# Altium integrated library Analog Devices RF IF Timing ICs and Clocks.IntLib: 168 symbols (part 15 of 18)
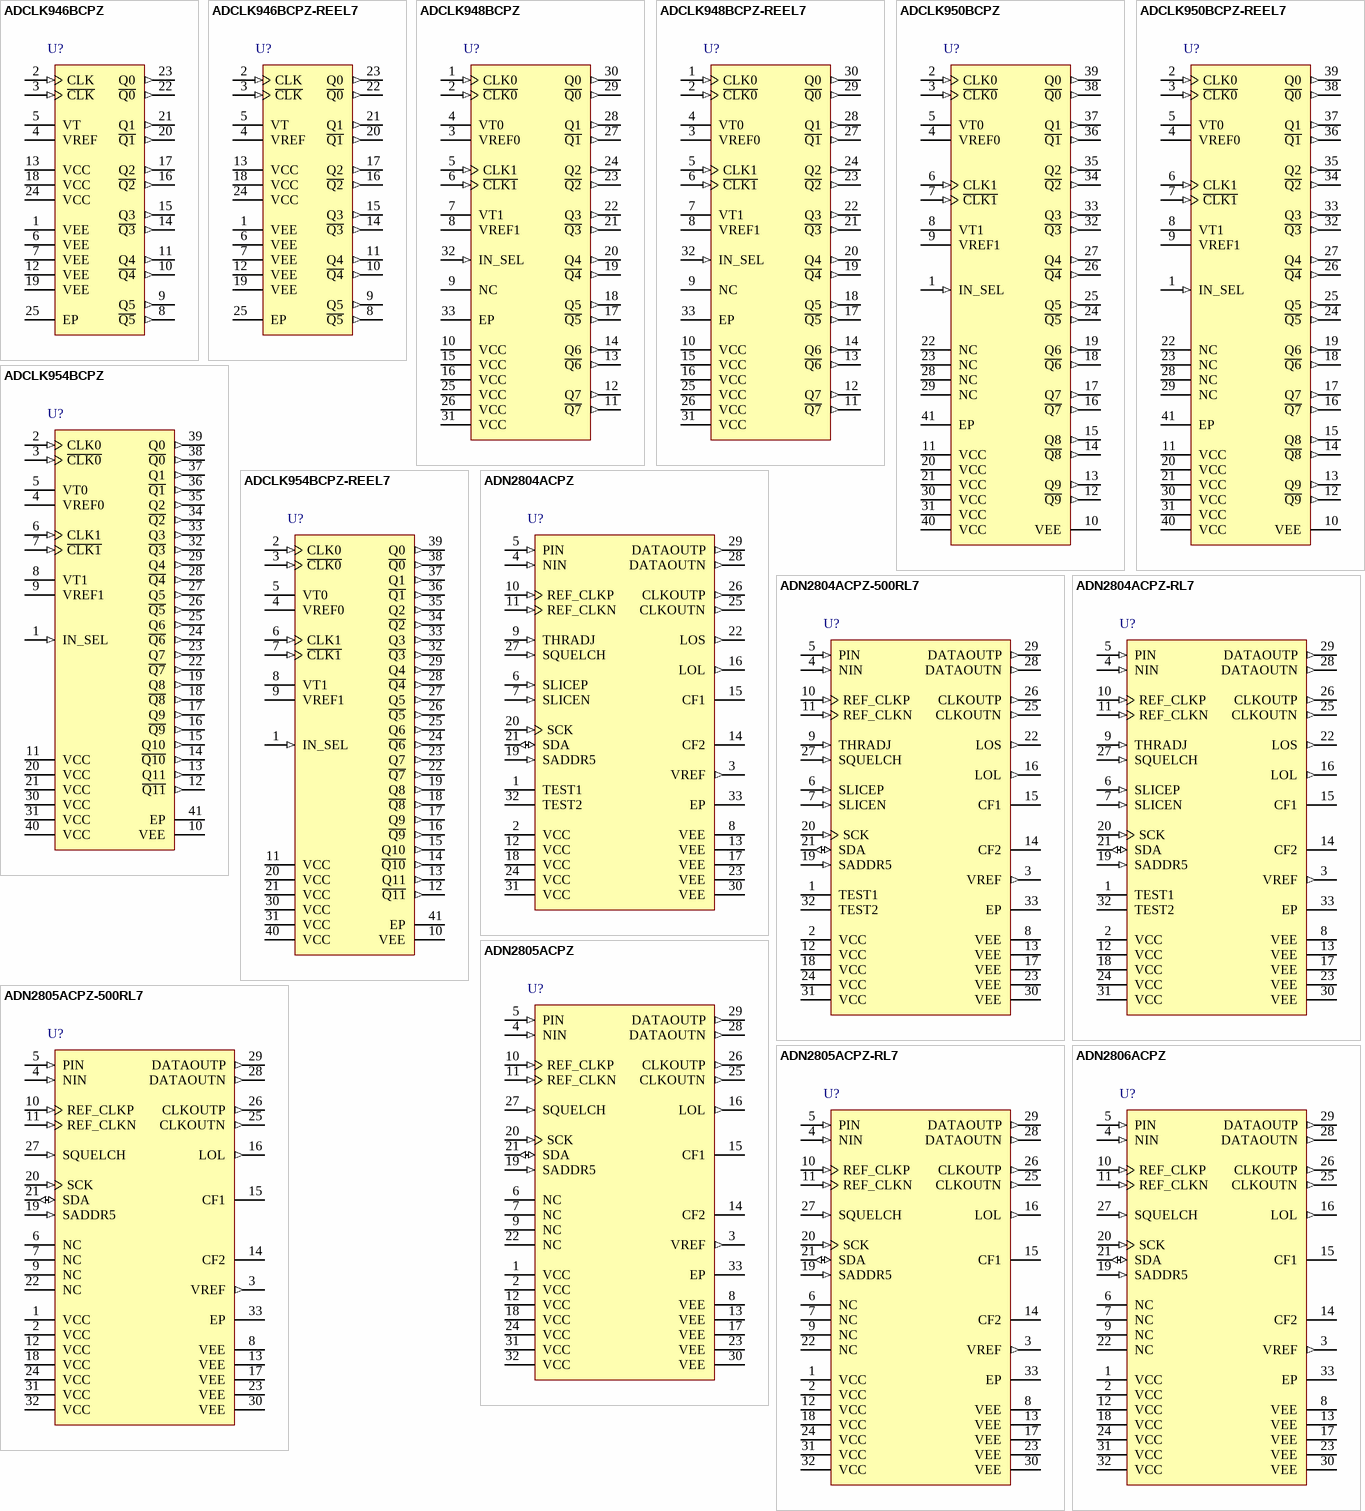
[diagram p29: symbols ADCLK946BCPZ to ADN2806ACPZ]

## ADCLK948BCPZ
designator U?
Two Selectable Inputs, 8 LVPECL Outputs, SiGe Clock Fanout Buffer, CP-32-8, Pb-Free, 490 Tray; +Supply Voltage (V): 3.3; Inputs: 2; Outputs: 8; Max f-out (MHz): 4800; Output Logic: ECL; LVPECL; DatasheetVersion: Rev. A; PackageVersion: 080306-A; PackageReference: CP-32-8; PackageDescription: 32-Lead Lead Frame Chip Scale Package [LFCSP_VQ]; Product Description: SiGe Clock Fanout Buffer; Code_JEDEC: MO-220-VHHD-2; ComponentLink1Description: Manufacturer URL; ComponentLink1URL: www.analog.com; ComponentLink2Description: Datasheet; ComponentLink2URL: http://www.analog.com/static/imported-files/data_sheets/ADCLK948.pdf; ComponentLink3Description: Package Specification; ComponentLink3URL: http://www.analog.com/static/imported-files/packages/3743763361381667927CP_32_8.pdf
footprint ADI-CP-32-8_N (QFN, 32-Leads, Body 5x5mm, Pitch 0.5mm, Thermal Pad 2.7x2.7mm, IPC Medium Density)
footprint ADI-CP-32-8_L (QFN, 32-Leads, Body 5x5mm, Pitch 0.5mm, Thermal Pad 2.7x2.7mm, IPC High Density)
footprint ADI-CP-32-8_M (QFN, 32-Leads, Body 5x5mm, Pitch 0.5mm, Thermal Pad 2.7x2.7mm, IPC Low Density)
pins: 1 CLK0 (in) "Differential Input (Positive) 0.", 2 ~{CLK0} (in) "Differential Input (Negative) 0.", 3 VREF0 (power) "Reference Voltage. Reference voltage for biasing ac-coupled CLK0 and C\L\K\0\ inputs.", 4 VT0 "Center Tap. Center tap of a 100  ohm input resistor for CLK0 and C\L\K\0\ inputs.", 5 CLK1 (in) "Differential Input (Positive) 1.", 6 ~{CLK1} (in) "Differential Input (Negative) 1.", 7 VT1 "Center Tap. Center tap of a 100  ohm input resistor for CLK1 and C\L\K\1\ inputs.", 8 VREF1 (power) "Reference Voltage. Reference voltage for biasing ac-coupled CLK1 and C\L\K\1\ inputs.", 9 NC "No Connection.", 10 VCC (power) "Positive Supply Pin.", 11 ~{Q7} (out) "Differential LVPECL Outputs.", 12 Q7 (out) "Differential LVPECL Outputs.", 13 ~{Q6} (out) "Differential LVPECL Outputs.", 14 Q6 (out) "Differential LVPECL Outputs.", 15 VCC (power) "Positive Supply Pin.", 16 VCC (power) "Positive Supply Pin.", 17 ~{Q5} (out) "Differential LVPECL Outputs.", 18 Q5 (out) "Differential LVPECL Outputs.", 19 ~{Q4} (out) "Differential LVPECL Outputs.", 20 Q4 (out) "Differential LVPECL Outputs.", 21 ~{Q3} (out) "Differential LVPECL Outputs.", 22 Q3 (out) "Differential LVPECL Outputs.", 23 ~{Q2} (out) "Differential LVPECL Outputs.", 24 Q2 (out) "Differential LVPECL Outputs.", 25 VCC (power) "Positive Supply Pin.", 26 VCC (power) "Positive Supply Pin.", 27 ~{Q1} (out) "Differential LVPECL Outputs.", 28 Q1 (out) "Differential LVPECL Outputs.", 29 ~{Q0} (out) "Differential LVPECL Outputs.", 30 Q0 (out) "Differential LVPECL Outputs.", 31 VCC (power) "Positive Supply Pin.", 32 IN_SEL (in) "Input Select. Logic 0 selects CLK0 and C\L\K\0\ inputs. Logic 1 selects CLK1 and C\L\K\1\ inputs.", 33 EP (power) "The exposed pad (EPAD) must be connected to VEE."

## ADCLK948BCPZ-REEL7
designator U?
Two Selectable Inputs, 8 LVPECL Outputs, SiGe Clock Fanout Buffer, CP-32-8, Pb-Free, 1500 Reel; +Supply Voltage (V): 3.3; Inputs: 2; Outputs: 8; Max f-out (MHz): 4800; Output Logic: ECL; LVPECL; DatasheetVersion: Rev. A; PackageVersion: 080306-A; PackageReference: CP-32-8; PackageDescription: 32-Lead Lead Frame Chip Scale Package [LFCSP_VQ]; Product Description: SiGe Clock Fanout Buffer; Code_JEDEC: MO-220-VHHD-2; ComponentLink1Description: Manufacturer URL; ComponentLink1URL: www.analog.com; ComponentLink2Description: Datasheet; ComponentLink2URL: http://www.analog.com/static/imported-files/data_sheets/ADCLK948.pdf; ComponentLink3Description: Package Specification; ComponentLink3URL: http://www.analog.com/static/imported-files/packages/3743763361381667927CP_32_8.pdf
footprint ADI-CP-32-8_N (QFN, 32-Leads, Body 5x5mm, Pitch 0.5mm, Thermal Pad 2.7x2.7mm, IPC Medium Density)
footprint ADI-CP-32-8_L (QFN, 32-Leads, Body 5x5mm, Pitch 0.5mm, Thermal Pad 2.7x2.7mm, IPC High Density)
footprint ADI-CP-32-8_M (QFN, 32-Leads, Body 5x5mm, Pitch 0.5mm, Thermal Pad 2.7x2.7mm, IPC Low Density)
pins: 1 CLK0 (in) "Differential Input (Positive) 0.", 2 ~{CLK0} (in) "Differential Input (Negative) 0.", 3 VREF0 (power) "Reference Voltage. Reference voltage for biasing ac-coupled CLK0 and C\L\K\0\ inputs.", 4 VT0 "Center Tap. Center tap of a 100  ohm input resistor for CLK0 and C\L\K\0\ inputs.", 5 CLK1 (in) "Differential Input (Positive) 1.", 6 ~{CLK1} (in) "Differential Input (Negative) 1.", 7 VT1 "Center Tap. Center tap of a 100  ohm input resistor for CLK1 and C\L\K\1\ inputs.", 8 VREF1 (power) "Reference Voltage. Reference voltage for biasing ac-coupled CLK1 and C\L\K\1\ inputs.", 9 NC "No Connection.", 10 VCC (power) "Positive Supply Pin.", 11 ~{Q7} (out) "Differential LVPECL Outputs.", 12 Q7 (out) "Differential LVPECL Outputs.", 13 ~{Q6} (out) "Differential LVPECL Outputs.", 14 Q6 (out) "Differential LVPECL Outputs.", 15 VCC (power) "Positive Supply Pin.", 16 VCC (power) "Positive Supply Pin.", 17 ~{Q5} (out) "Differential LVPECL Outputs.", 18 Q5 (out) "Differential LVPECL Outputs.", 19 ~{Q4} (out) "Differential LVPECL Outputs.", 20 Q4 (out) "Differential LVPECL Outputs.", 21 ~{Q3} (out) "Differential LVPECL Outputs.", 22 Q3 (out) "Differential LVPECL Outputs.", 23 ~{Q2} (out) "Differential LVPECL Outputs.", 24 Q2 (out) "Differential LVPECL Outputs.", 25 VCC (power) "Positive Supply Pin.", 26 VCC (power) "Positive Supply Pin.", 27 ~{Q1} (out) "Differential LVPECL Outputs.", 28 Q1 (out) "Differential LVPECL Outputs.", 29 ~{Q0} (out) "Differential LVPECL Outputs.", 30 Q0 (out) "Differential LVPECL Outputs.", 31 VCC (power) "Positive Supply Pin.", 32 IN_SEL (in) "Input Select. Logic 0 selects CLK0 and C\L\K\0\ inputs. Logic 1 selects CLK1 and C\L\K\1\ inputs.", 33 EP (power) "The exposed pad (EPAD) must be connected to VEE."

## ADCLK950BCPZ
designator U?
Two Selectable Inputs, 10 LVPECL Outputs, SiGe Clock Fanout Buffer, CP-40-8, Pb-Free, 490 Tray; +Supply Voltage (V): 3.3; Inputs: 2; Outputs: 10; Max f-out (MHz): 4800; Output Logic: ECL; LVPECL; DatasheetVersion: Rev. A; PackageVersion: 082708-A; PackageReference: CP-40-8; PackageDescription: 40-Lead Lead Frame Chip Scale Package [LFCSP_VQ]; Product Description: SiGe Clock Fanout Buffer; Code_JEDEC: MO-220-VJJD-2; ComponentLink1Description: Manufacturer URL; ComponentLink1URL: www.analog.com; ComponentLink2Description: Datasheet; ComponentLink2URL: http://www.analog.com/static/imported-files/data_sheets/ADCLK950.pdf; ComponentLink3Description: Package Specification; ComponentLink3URL: http://www.analog.com/static/imported-files/packages/PKG_PDF/LFCSP(CP)/CP_40_8.pdf
footprint ADI-CP-40-8_N (QFN, 40-Leads, Body 6x6mm, Pitch 0.5mm, Thermal Pad 2.9x2.9mm, IPC Medium Density)
footprint ADI-CP-40-8_L (QFN, 40-Leads, Body 6x6mm, Pitch 0.5mm, Thermal Pad 2.9x2.9mm, IPC High Density)
footprint ADI-CP-40-8_M (QFN, 40-Leads, Body 6x6mm, Pitch 0.5mm, Thermal Pad 2.9x2.9mm, IPC Low Density)
pins: 1 IN_SEL (in) "Input Select. Logic 0 selects CLK0 and C\L\K\0\ inputs. Logic 1 selects CLK1 and C\L\K\1\ inputs.", 2 CLK0 (in) "Differential Input (Positive) 0.", 3 ~{CLK0} (in) "Differential Input (Negative) 0.", 4 VREF0 (power) "Reference Voltage. Reference voltage for biasing ac-coupled CLK0 and C\L\K\0\ inputs.", 5 VT0 "Center Tap. Center tap of a 100  ohm input resistor for CLK0 and C\L\K\0\ inputs.", 6 CLK1 (in) "Differential Input (Positive) 1.", 7 ~{CLK1} (in) "Differential Input (Negative) 1.", 8 VT1 "Center Tap. Center tap of a 100  ohm input resistor for CLK1 and C\L\K\1\ inputs.", 9 VREF1 (power) "Reference Voltage. Reference voltage for biasing ac-coupled CLK1 and C\L\K\1\ inputs.", 10 VEE (power) "Negative Supply Pin.", 11 VCC (power) "Positive Supply Pin.", 12 ~{Q9} (out) "Differential LVPECL Outputs.", 13 Q9 (out) "Differential LVPECL Outputs.", 14 ~{Q8} (out) "Differential LVPECL Outputs.", 15 Q8 (out) "Differential LVPECL Outputs.", 16 ~{Q7} (out) "Differential LVPECL Outputs.", 17 Q7 (out) "Differential LVPECL Outputs.", 18 ~{Q6} (out) "Differential LVPECL Outputs.", 19 Q6 (out) "Differential LVPECL Outputs.", 20 VCC (power) "Positive Supply Pin.", 21 VCC (power) "Positive Supply Pin.", 22 NC "No Connection", 23 NC "No Connection", 24 ~{Q5} (out) "Differential LVPECL Outputs.", 25 Q5 (out) "Differential LVPECL Outputs.", 26 ~{Q4} (out) "Differential LVPECL Outputs.", 27 Q4 (out) "Differential LVPECL Outputs.", 28 NC "No Connection", 29 NC "No Connection", 30 VCC (power) "Positive Supply Pin.", 31 VCC (power) "Positive Supply Pin.", 32 ~{Q3} (out) "Differential LVPECL Outputs.", 33 Q3 (out) "Differential LVPECL Outputs.", 34 ~{Q2} (out) "Differential LVPECL Outputs.", 35 Q2 (out) "Differential LVPECL Outputs.", 36 ~{Q1} (out) "Differential LVPECL Outputs.", 37 Q1 (out) "Differential LVPECL Outputs.", 38 ~{Q0} (out) "Differential LVPECL Outputs.", 39 Q0 (out) "Differential LVPECL Outputs.", 40 VCC (power) "Positive Supply Pin.", 41 EP (power) "Exposed pad (EPAD) must be connected to VEE."

## ADCLK950BCPZ-REEL7
designator U?
Two Selectable Inputs, 10 LVPECL Outputs, SiGe Clock Fanout Buffer, CP-40-8, Pb-Free, 750 Reel; +Supply Voltage (V): 3.3; Inputs: 2; Outputs: 10; Max f-out (MHz): 4800; Output Logic: ECL; LVPECL; DatasheetVersion: Rev. A; PackageVersion: 082708-A; PackageReference: CP-40-8; PackageDescription: 40-Lead Lead Frame Chip Scale Package [LFCSP_VQ]; Product Description: SiGe Clock Fanout Buffer; Code_JEDEC: MO-220-VJJD-2; ComponentLink1Description: Manufacturer URL; ComponentLink1URL: www.analog.com; ComponentLink2Description: Datasheet; ComponentLink2URL: http://www.analog.com/static/imported-files/data_sheets/ADCLK950.pdf; ComponentLink3Description: Package Specification; ComponentLink3URL: http://www.analog.com/static/imported-files/packages/PKG_PDF/LFCSP(CP)/CP_40_8.pdf
footprint ADI-CP-40-8_N (QFN, 40-Leads, Body 6x6mm, Pitch 0.5mm, Thermal Pad 2.9x2.9mm, IPC Medium Density)
footprint ADI-CP-40-8_L (QFN, 40-Leads, Body 6x6mm, Pitch 0.5mm, Thermal Pad 2.9x2.9mm, IPC High Density)
footprint ADI-CP-40-8_M (QFN, 40-Leads, Body 6x6mm, Pitch 0.5mm, Thermal Pad 2.9x2.9mm, IPC Low Density)
pins: 1 IN_SEL (in) "Input Select. Logic 0 selects CLK0 and C\L\K\0\ inputs. Logic 1 selects CLK1 and C\L\K\1\ inputs.", 2 CLK0 (in) "Differential Input (Positive) 0.", 3 ~{CLK0} (in) "Differential Input (Negative) 0.", 4 VREF0 (power) "Reference Voltage. Reference voltage for biasing ac-coupled CLK0 and C\L\K\0\ inputs.", 5 VT0 "Center Tap. Center tap of a 100  ohm input resistor for CLK0 and C\L\K\0\ inputs.", 6 CLK1 (in) "Differential Input (Positive) 1.", 7 ~{CLK1} (in) "Differential Input (Negative) 1.", 8 VT1 "Center Tap. Center tap of a 100  ohm input resistor for CLK1 and C\L\K\1\ inputs.", 9 VREF1 (power) "Reference Voltage. Reference voltage for biasing ac-coupled CLK1 and C\L\K\1\ inputs.", 10 VEE (power) "Negative Supply Pin.", 11 VCC (power) "Positive Supply Pin.", 12 ~{Q9} (out) "Differential LVPECL Outputs.", 13 Q9 (out) "Differential LVPECL Outputs.", 14 ~{Q8} (out) "Differential LVPECL Outputs.", 15 Q8 (out) "Differential LVPECL Outputs.", 16 ~{Q7} (out) "Differential LVPECL Outputs.", 17 Q7 (out) "Differential LVPECL Outputs.", 18 ~{Q6} (out) "Differential LVPECL Outputs.", 19 Q6 (out) "Differential LVPECL Outputs.", 20 VCC (power) "Positive Supply Pin.", 21 VCC (power) "Positive Supply Pin.", 22 NC "No Connection", 23 NC "No Connection", 24 ~{Q5} (out) "Differential LVPECL Outputs.", 25 Q5 (out) "Differential LVPECL Outputs.", 26 ~{Q4} (out) "Differential LVPECL Outputs.", 27 Q4 (out) "Differential LVPECL Outputs.", 28 NC "No Connection", 29 NC "No Connection", 30 VCC (power) "Positive Supply Pin.", 31 VCC (power) "Positive Supply Pin.", 32 ~{Q3} (out) "Differential LVPECL Outputs.", 33 Q3 (out) "Differential LVPECL Outputs.", 34 ~{Q2} (out) "Differential LVPECL Outputs.", 35 Q2 (out) "Differential LVPECL Outputs.", 36 ~{Q1} (out) "Differential LVPECL Outputs.", 37 Q1 (out) "Differential LVPECL Outputs.", 38 ~{Q0} (out) "Differential LVPECL Outputs.", 39 Q0 (out) "Differential LVPECL Outputs.", 40 VCC (power) "Positive Supply Pin.", 41 EP (power) "Exposed pad (EPAD) must be connected to VEE."

## ADCLK954BCPZ
designator U?
Two Selectable Inputs, 12 LVPECL Outputs, SiGe Clock Fanout Buffer, CP-40-8, Pb-Free, 490 Tray; +Supply Voltage (V): 3.3; Inputs: 2; Outputs: 12; On-Chip VCO or DCO: No; Max f-out (MHz): 4800; DatasheetVersion: Rev. B; PackageVersion: 082708-A; PackageReference: CP-40-8; PackageDescription: 40-Lead Lead Frame Chip Scale Package [LFCSP_VQ]; Product Description: SiGe Clock Fanout Buffer; Output Logic: LVPECL; Code_JEDEC: MO-220-VJJD-2; ComponentLink1Description: Manufacturer URL; ComponentLink1URL: www.analog.com; ComponentLink2Description: Datasheet; ComponentLink2URL: http://www.analog.com/static/imported-files/data_sheets/ADCLK954.pdf; ComponentLink3Description: Package Specification; ComponentLink3URL: http://www.analog.com/static/imported-files/packages/PKG_PDF/LFCSP(CP)/CP_40_8.pdf
footprint ADI-CP-40-8_N (QFN, 40-Leads, Body 6x6mm, Pitch 0.5mm, Thermal Pad 2.9x2.9mm, IPC Medium Density)
footprint ADI-CP-40-8_L (QFN, 40-Leads, Body 6x6mm, Pitch 0.5mm, Thermal Pad 2.9x2.9mm, IPC High Density)
footprint ADI-CP-40-8_M (QFN, 40-Leads, Body 6x6mm, Pitch 0.5mm, Thermal Pad 2.9x2.9mm, IPC Low Density)
pins: 1 IN_SEL (in) "Input Select. Logic 0 selects CLK0 and C\L\K\0\ inputs. Logic 1 selects CLK1 and C\L\K\1\ inputs.", 2 CLK0 (in) "Differential Input (Positive) 0", 3 ~{CLK0} (in) "Differential Input (Negative) 0", 4 VREF0 (power) "Reference Voltage. Reference voltage for biasing ac-coupled CLK0 and C\L\K\0\ inputs", 5 VT0 "Center Tap. Center tap of a 100  ohm input resistor for CLK0 and CLK0 inputs.", 6 CLK1 (in) "Differential Input (Positive) 1", 7 ~{CLK1} (in) "Differential Input (Negative) 1", 8 VT1 "Center Tap. Center tap of a 100  ohm input resistor for CLK1 and C\L\K\1\ inputs", 9 VREF1 (power) "Reference Voltage. Reference voltage for biasing ac-coupled CLK1 and C\L\K\1\ inputs", 10 VEE (power) "Negative Supply Pin", 11 VCC (power) "Positive Supply Pin", 12 ~{Q11} (out) "Differential LVPECL Outputs", 13 Q11 (out) "Differential LVPECL Outputs", 14 ~{Q10} (out) "Differential LVPECL Outputs", 15 Q10 (out) "Differential LVPECL Outputs", 16 ~{Q9} (out) "Differential LVPECL Outputs", 17 Q9 (out) "Differential LVPECL Outputs", 18 ~{Q8} (out) "Differential LVPECL Outputs", 19 Q8 (out) "Differential LVPECL Outputs", 20 VCC (power) "Positive Supply Pin", 21 VCC (power) "Positive Supply Pin", 22 ~{Q7} (out) "Differential LVPECL Outputs", 23 Q7 (out) "Differential LVPECL Outputs", 24 ~{Q6} (out) "Differential LVPECL Outputs", 25 Q6 (out) "Differential LVPECL Outputs", 26 ~{Q5} (out) "Differential LVPECL Outputs", 27 Q5 (out) "Differential LVPECL Outputs", 28 ~{Q4} (out) "Differential LVPECL Outputs", 29 Q4 (out) "Differential LVPECL Outputs", 30 VCC (power) "Positive Supply Pin", 31 VCC (power) "Positive Supply Pin", 32 ~{Q3} (out) "Differential LVPECL Outputs", 33 Q3 (out) "Differential LVPECL Outputs", 34 ~{Q2} (out) "Differential LVPECL Outputs", 35 Q2 (out) "Differential LVPECL Outputs", 36 ~{Q1} (out) "Differential LVPECL Outputs", 37 Q1 (out) "Differential LVPECL Outputs", 38 ~{Q0} (out) "Differential LVPECL Outputs", 39 Q0 (out) "Differential LVPECL Outputs", 40 VCC (power) "Positive Supply Pin", 41 EP (power) "Exposed pad (EPAD) must be connected to VEE"

## ADCLK954BCPZ-REEL7
designator U?
Two Selectable Inputs, 12 LVPECL Outputs, SiGe Clock Fanout Buffer, CP-40-8, Pb-Free, 750 Reel; +Supply Voltage (V): 3.3; Inputs: 2; Outputs: 12; On-Chip VCO or DCO: No; Max f-out (MHz): 4800; DatasheetVersion: Rev. B; PackageVersion: 082708-A; PackageReference: CP-40-8; PackageDescription: 40-Lead Lead Frame Chip Scale Package [LFCSP_VQ]; Product Description: SiGe Clock Fanout Buffer; Output Logic: LVPECL; Code_JEDEC: MO-220-VJJD-2; ComponentLink1Description: Manufacturer URL; ComponentLink1URL: www.analog.com; ComponentLink2Description: Datasheet; ComponentLink2URL: http://www.analog.com/static/imported-files/data_sheets/ADCLK954.pdf; ComponentLink3Description: Package Specification; ComponentLink3URL: http://www.analog.com/static/imported-files/packages/PKG_PDF/LFCSP(CP)/CP_40_8.pdf
footprint ADI-CP-40-8_N (QFN, 40-Leads, Body 6x6mm, Pitch 0.5mm, Thermal Pad 2.9x2.9mm, IPC Medium Density)
footprint ADI-CP-40-8_L (QFN, 40-Leads, Body 6x6mm, Pitch 0.5mm, Thermal Pad 2.9x2.9mm, IPC High Density)
footprint ADI-CP-40-8_M (QFN, 40-Leads, Body 6x6mm, Pitch 0.5mm, Thermal Pad 2.9x2.9mm, IPC Low Density)
pins: 1 IN_SEL (in) "Input Select. Logic 0 selects CLK0 and C\L\K\0\ inputs. Logic 1 selects CLK1 and C\L\K\1\ inputs.", 2 CLK0 (in) "Differential Input (Positive) 0", 3 ~{CLK0} (in) "Differential Input (Negative) 0", 4 VREF0 (power) "Reference Voltage. Reference voltage for biasing ac-coupled CLK0 and C\L\K\0\ inputs", 5 VT0 "Center Tap. Center tap of a 100  ohm input resistor for CLK0 and CLK0 inputs.", 6 CLK1 (in) "Differential Input (Positive) 1", 7 ~{CLK1} (in) "Differential Input (Negative) 1", 8 VT1 "Center Tap. Center tap of a 100  ohm input resistor for CLK1 and C\L\K\1\ inputs", 9 VREF1 (power) "Reference Voltage. Reference voltage for biasing ac-coupled CLK1 and C\L\K\1\ inputs", 10 VEE (power) "Negative Supply Pin", 11 VCC (power) "Positive Supply Pin", 12 ~{Q11} (out) "Differential LVPECL Outputs", 13 Q11 (out) "Differential LVPECL Outputs", 14 ~{Q10} (out) "Differential LVPECL Outputs", 15 Q10 (out) "Differential LVPECL Outputs", 16 ~{Q9} (out) "Differential LVPECL Outputs", 17 Q9 (out) "Differential LVPECL Outputs", 18 ~{Q8} (out) "Differential LVPECL Outputs", 19 Q8 (out) "Differential LVPECL Outputs", 20 VCC (power) "Positive Supply Pin", 21 VCC (power) "Positive Supply Pin", 22 ~{Q7} (out) "Differential LVPECL Outputs", 23 Q7 (out) "Differential LVPECL Outputs", 24 ~{Q6} (out) "Differential LVPECL Outputs", 25 Q6 (out) "Differential LVPECL Outputs", 26 ~{Q5} (out) "Differential LVPECL Outputs", 27 Q5 (out) "Differential LVPECL Outputs", 28 ~{Q4} (out) "Differential LVPECL Outputs", 29 Q4 (out) "Differential LVPECL Outputs", 30 VCC (power) "Positive Supply Pin", 31 VCC (power) "Positive Supply Pin", 32 ~{Q3} (out) "Differential LVPECL Outputs", 33 Q3 (out) "Differential LVPECL Outputs", 34 ~{Q2} (out) "Differential LVPECL Outputs", 35 Q2 (out) "Differential LVPECL Outputs", 36 ~{Q1} (out) "Differential LVPECL Outputs", 37 Q1 (out) "Differential LVPECL Outputs", 38 ~{Q0} (out) "Differential LVPECL Outputs", 39 Q0 (out) "Differential LVPECL Outputs", 40 VCC (power) "Positive Supply Pin", 41 EP (power) "Exposed pad (EPAD) must be connected to VEE"

## ADN2804ACPZ
designator U?
622 Mbps Clock and Data Recovery IC with Integrated Limiting Amplifier, CP-32-2, Pb-Free, 490 Tray; Voltage Supply (V): 3.3; Data Rate (Gb/s): 0.622; Input Sensitivity (mVp-p): 3; Jitter Tolerance (Ulpp): 1.0 @ 250 kHz; Jitter Transfer: 71 kHz @ OC12; Jitter Gen (mUI rms): 1; Rate: Single; Reference Clk: Optional; DatasheetVersion: Rev. C; PackageVersion: Jan-2005; PackageReference: CP-32-2; PackageDescription: 32-Lead Lead Frame Chip Scale Package [LFCSP_VQ]; Code_JEDEC: MO-220-VHHD-2; ComponentLink1Description: Manufacturer URL; ComponentLink1URL: www.analog.com; ComponentLink2Description: Datasheet; ComponentLink2URL: http://www.analog.com/static/imported-files/data_sheets/ADN2804.pdf; ComponentLink3Description: Package Specification; ComponentLink3URL: http://www.analog.com/static/imported-files/packages/414143737956480539664569CP_32_2.pdf
footprint ADI-CP-32-2_N (QFN, 32-Leads, Body 5x5mm, Pitch 0.5mm, Thermal Pad 3.1x3.1mm, IPC Medium Density)
footprint ADI-CP-32-2_L (QFN, 32-Leads, Body 5x5mm, Pitch 0.5mm, Thermal Pad 3.1x3.1mm, IPC High Density)
footprint ADI-CP-32-2_M (QFN, 32-Leads, Body 5x5mm, Pitch 0.5mm, Thermal Pad 3.1x3.1mm, IPC Low Density)
pins: 1 TEST1 (power) "Connect to VCC", 2 VCC (power) "Power for Limiting Amplifier, LOS", 3 VREF (out) "Internal VREF Voltage. Decouple to GND with a 0.1 uF capacitor", 4 NIN (in) "Differential Data Input. CML", 5 PIN (in) "Differential Data Input. CML", 6 SLICEP (in) "Differential Slice Level Adjust Input", 7 SLICEN (in) "Differential Slice Level Adjust Input", 8 VEE (power) "GND for Limiting Amplifier, LOS", 9 THRADJ (in) "LOS Threshold Setting Resistor", 10 REF_CLKP (in) "Differential REFCLK Input. 10 MHz to 160 MHz", 11 REF_CLKN (in) "Differential REFCLK Input. 10 MHz to 160 MHz", 12 VCC (power) "VCO Power", 13 VEE (power) "VCO GND", 14 CF2 "Frequency Loop Capacitor", 15 CF1 "Frequency Loop Capacitor", 16 LOL (out) "Loss-of-Lock Indicator. LVTTL active high", 17 VEE (power) "FLL Detector GND", 18 VCC (power) "FLL Detector Power", 19 SADDR5 (in) "Slave Address Bit 5", 20 SCK (in) "I2C Clock Input", 21 SDA (io) "I2C Data Input", 22 LOS (out) "Loss-of-Signal Detect Output. Active high. LVTTL", 23 VEE (power) "Output Buffer, I2C GND", 24 VCC (power) "Output Buffer, I2C Power", 25 CLKOUTN (out) "Differential Recovered Clock Output. LVDS", 26 CLKOUTP (out) "Differential Recovered Clock Output. LVDS", 27 SQUELCH (in) "Disable Clock and Data Outputs. Active high. LVTTL", 28 DATAOUTN (out) "Differential Recovered Data Output. LVDS", 29 DATAOUTP (out) "Differential Recovered Data Output. LVDS", 30 VEE (power) "Phase Detector, Phase Shifter GND", 31 VCC (power) "Phase Detector, Phase Shifter Power", 32 TEST2 (power) "Connect to VCC", 33 EP (power) "Connect to GND"

## ADN2804ACPZ-500RL7
designator U?
622 Mbps Clock and Data Recovery IC with Integrated Limiting Amplifier, CP-32-2, Pb-Free, 500 Reel; Voltage Supply (V): 3.3; Data Rate (Gb/s): 0.622; Input Sensitivity (mVp-p): 3; Jitter Tolerance (Ulpp): 1.0 @ 250 kHz; Jitter Transfer: 71 kHz @ OC12; Jitter Gen (mUI rms): 1; Rate: Single; Reference Clk: Optional; DatasheetVersion: Rev. C; PackageVersion: Jan-2005; PackageReference: CP-32-2; PackageDescription: 32-Lead Lead Frame Chip Scale Package [LFCSP_VQ]; Code_JEDEC: MO-220-VHHD-2; ComponentLink1Description: Manufacturer URL; ComponentLink1URL: www.analog.com; ComponentLink2Description: Datasheet; ComponentLink2URL: http://www.analog.com/static/imported-files/data_sheets/ADN2804.pdf; ComponentLink3Description: Package Specification; ComponentLink3URL: http://www.analog.com/static/imported-files/packages/414143737956480539664569CP_32_2.pdf
footprint ADI-CP-32-2_N (QFN, 32-Leads, Body 5x5mm, Pitch 0.5mm, Thermal Pad 3.1x3.1mm, IPC Medium Density)
footprint ADI-CP-32-2_L (QFN, 32-Leads, Body 5x5mm, Pitch 0.5mm, Thermal Pad 3.1x3.1mm, IPC High Density)
footprint ADI-CP-32-2_M (QFN, 32-Leads, Body 5x5mm, Pitch 0.5mm, Thermal Pad 3.1x3.1mm, IPC Low Density)
pins: 1 TEST1 (power) "Connect to VCC", 2 VCC (power) "Power for Limiting Amplifier, LOS", 3 VREF (out) "Internal VREF Voltage. Decouple to GND with a 0.1 uF capacitor", 4 NIN (in) "Differential Data Input. CML", 5 PIN (in) "Differential Data Input. CML", 6 SLICEP (in) "Differential Slice Level Adjust Input", 7 SLICEN (in) "Differential Slice Level Adjust Input", 8 VEE (power) "GND for Limiting Amplifier, LOS", 9 THRADJ (in) "LOS Threshold Setting Resistor", 10 REF_CLKP (in) "Differential REFCLK Input. 10 MHz to 160 MHz", 11 REF_CLKN (in) "Differential REFCLK Input. 10 MHz to 160 MHz", 12 VCC (power) "VCO Power", 13 VEE (power) "VCO GND", 14 CF2 "Frequency Loop Capacitor", 15 CF1 "Frequency Loop Capacitor", 16 LOL (out) "Loss-of-Lock Indicator. LVTTL active high", 17 VEE (power) "FLL Detector GND", 18 VCC (power) "FLL Detector Power", 19 SADDR5 (in) "Slave Address Bit 5", 20 SCK (in) "I2C Clock Input", 21 SDA (io) "I2C Data Input", 22 LOS (out) "Loss-of-Signal Detect Output. Active high. LVTTL", 23 VEE (power) "Output Buffer, I2C GND", 24 VCC (power) "Output Buffer, I2C Power", 25 CLKOUTN (out) "Differential Recovered Clock Output. LVDS", 26 CLKOUTP (out) "Differential Recovered Clock Output. LVDS", 27 SQUELCH (in) "Disable Clock and Data Outputs. Active high. LVTTL", 28 DATAOUTN (out) "Differential Recovered Data Output. LVDS", 29 DATAOUTP (out) "Differential Recovered Data Output. LVDS", 30 VEE (power) "Phase Detector, Phase Shifter GND", 31 VCC (power) "Phase Detector, Phase Shifter Power", 32 TEST2 (power) "Connect to VCC", 33 EP (power) "Connect to GND"

## ADN2804ACPZ-RL7
designator U?
622 Mbps Clock and Data Recovery IC with Integrated Limiting Amplifier, CP-32-2, Pb-Free, 1500 Reel; Voltage Supply (V): 3.3; Data Rate (Gb/s): 0.622; Input Sensitivity (mVp-p): 3; Jitter Tolerance (Ulpp): 1.0 @ 250 kHz; Jitter Transfer: 71 kHz @ OC12; Jitter Gen (mUI rms): 1; Rate: Single; Reference Clk: Optional; DatasheetVersion: Rev. C; PackageVersion: Jan-2005; PackageReference: CP-32-2; PackageDescription: 32-Lead Lead Frame Chip Scale Package [LFCSP_VQ]; Code_JEDEC: MO-220-VHHD-2; ComponentLink1Description: Manufacturer URL; ComponentLink1URL: www.analog.com; ComponentLink2Description: Datasheet; ComponentLink2URL: http://www.analog.com/static/imported-files/data_sheets/ADN2804.pdf; ComponentLink3Description: Package Specification; ComponentLink3URL: http://www.analog.com/static/imported-files/packages/414143737956480539664569CP_32_2.pdf
footprint ADI-CP-32-2_N (QFN, 32-Leads, Body 5x5mm, Pitch 0.5mm, Thermal Pad 3.1x3.1mm, IPC Medium Density)
footprint ADI-CP-32-2_L (QFN, 32-Leads, Body 5x5mm, Pitch 0.5mm, Thermal Pad 3.1x3.1mm, IPC High Density)
footprint ADI-CP-32-2_M (QFN, 32-Leads, Body 5x5mm, Pitch 0.5mm, Thermal Pad 3.1x3.1mm, IPC Low Density)
pins: 1 TEST1 (power) "Connect to VCC", 2 VCC (power) "Power for Limiting Amplifier, LOS", 3 VREF (out) "Internal VREF Voltage. Decouple to GND with a 0.1 uF capacitor", 4 NIN (in) "Differential Data Input. CML", 5 PIN (in) "Differential Data Input. CML", 6 SLICEP (in) "Differential Slice Level Adjust Input", 7 SLICEN (in) "Differential Slice Level Adjust Input", 8 VEE (power) "GND for Limiting Amplifier, LOS", 9 THRADJ (in) "LOS Threshold Setting Resistor", 10 REF_CLKP (in) "Differential REFCLK Input. 10 MHz to 160 MHz", 11 REF_CLKN (in) "Differential REFCLK Input. 10 MHz to 160 MHz", 12 VCC (power) "VCO Power", 13 VEE (power) "VCO GND", 14 CF2 "Frequency Loop Capacitor", 15 CF1 "Frequency Loop Capacitor", 16 LOL (out) "Loss-of-Lock Indicator. LVTTL active high", 17 VEE (power) "FLL Detector GND", 18 VCC (power) "FLL Detector Power", 19 SADDR5 (in) "Slave Address Bit 5", 20 SCK (in) "I2C Clock Input", 21 SDA (io) "I2C Data Input", 22 LOS (out) "Loss-of-Signal Detect Output. Active high. LVTTL", 23 VEE (power) "Output Buffer, I2C GND", 24 VCC (power) "Output Buffer, I2C Power", 25 CLKOUTN (out) "Differential Recovered Clock Output. LVDS", 26 CLKOUTP (out) "Differential Recovered Clock Output. LVDS", 27 SQUELCH (in) "Disable Clock and Data Outputs. Active high. LVTTL", 28 DATAOUTN (out) "Differential Recovered Data Output. LVDS", 29 DATAOUTP (out) "Differential Recovered Data Output. LVDS", 30 VEE (power) "Phase Detector, Phase Shifter GND", 31 VCC (power) "Phase Detector, Phase Shifter Power", 32 TEST2 (power) "Connect to VCC", 33 EP (power) "Connect to GND"

## ADN2805ACPZ
designator U?
1.25 Gbps Clock and Data Recovery IC, CP-32-2, Pb-Free, 490 Tray; Voltage Supply (V): 3.3; Data Rate (Gb/s): 1.25; Input Sensitivity (mVp-p): 200; Rate: Single; DatasheetVersion: Rev. A; PackageVersion: Jan-2005; PackageReference: CP-32-2; PackageDescription: 32-Lead Lead Frame Chip Scale Package [LFCSP_VQ]; Code_JEDEC: MO-220-VHHD-2; ComponentLink1Description: Manufacturer URL; ComponentLink1URL: www.analog.com; ComponentLink2Description: Datasheet; ComponentLink2URL: http://www.analog.com/static/imported-files/data_sheets/ADN2805.pdf; ComponentLink3Description: Package Specification; ComponentLink3URL: http://www.analog.com/static/imported-files/packages/414143737956480539664569CP_32_2.pdf
footprint ADI-CP-32-2_N (QFN, 32-Leads, Body 5x5mm, Pitch 0.5mm, Thermal Pad 3.1x3.1mm, IPC Medium Density)
footprint ADI-CP-32-2_L (QFN, 32-Leads, Body 5x5mm, Pitch 0.5mm, Thermal Pad 3.1x3.1mm, IPC High Density)
footprint ADI-CP-32-2_M (QFN, 32-Leads, Body 5x5mm, Pitch 0.5mm, Thermal Pad 3.1x3.1mm, IPC Low Density)
pins: 1 VCC (power) "Connect to VCC", 2 VCC (power) "Power for Limiting Amplifier,LOS", 3 VREF (out) "Internal VREF Voltage. Decouple to GND with a 0.1uF capacitor", 4 NIN (in) "Differential Data Input. CML", 5 PIN (in) "Differential Data Input. CML", 6 NC "No Connect", 7 NC "No Connect", 8 VEE (power) "GND for Limiting Amplifier,LOS", 9 NC "No Connect", 10 REF_CLKP (in) "Differential REFCLK Input. 10 MHz to 160 MHz.", 11 REF_CLKN (in) "Differential REFCLK Input. 10 MHz to 160 MHz", 12 VCC (power) "VCO Power", 13 VEE (power) "VCO GND", 14 CF2 "Frequency Loop Capacitor", 15 CF1 "Frequency Loop Capacitor", 16 LOL (out) "Loss-of-Lock Indicator. LVTTL active high", 17 VEE (power) "FLL Detector GND", 18 VCC (power) "FLL Detector Power", 19 SADDR5 (in) "Slave Address Bit 5", 20 SCK (in) "I2C Clock Input", 21 SDA (io) "I2C Data Input", 22 NC "No Connect", 23 VEE (power) "Output Buffer, I2C GND", 24 VCC (power) "Output Buffer, I2C Power", 25 CLKOUTN (out) "Differential Recovered Clock Output. LVDS", 26 CLKOUTP (out) "Differential Recovered Clock Output. LVDS", 27 SQUELCH (in) "Disable Clock and Data Outputs. Active high. LVTTL", 28 DATAOUTN (out) "Differential Recovered Data Output. LVDS", 29 DATAOUTP (out) "Differential Recovered Data Output. LVDS", 30 VEE (power) "Phase Detector, Phase Shifter GND", 31 VCC (power) "Phase Detector, Phase Shifter Power", 32 VCC (power) "Connect to VCC", 33 EP (power) "Connect to GND. Works as a heat sink"

## ADN2805ACPZ-500RL7
designator U?
1.25 Gbps Clock and Data Recovery IC, CP-32-2, Pb-Free, 500 Reel; Voltage Supply (V): 3.3; Data Rate (Gb/s): 1.25; Input Sensitivity (mVp-p): 200; Rate: Single; DatasheetVersion: Rev. A; PackageVersion: Jan-2005; PackageReference: CP-32-2; PackageDescription: 32-Lead Lead Frame Chip Scale Package [LFCSP_VQ]; Code_JEDEC: MO-220-VHHD-2; ComponentLink1Description: Manufacturer URL; ComponentLink1URL: www.analog.com; ComponentLink2Description: Datasheet; ComponentLink2URL: http://www.analog.com/static/imported-files/data_sheets/ADN2805.pdf; ComponentLink3Description: Package Specification; ComponentLink3URL: http://www.analog.com/static/imported-files/packages/414143737956480539664569CP_32_2.pdf
footprint ADI-CP-32-2_N (QFN, 32-Leads, Body 5x5mm, Pitch 0.5mm, Thermal Pad 3.1x3.1mm, IPC Medium Density)
footprint ADI-CP-32-2_L (QFN, 32-Leads, Body 5x5mm, Pitch 0.5mm, Thermal Pad 3.1x3.1mm, IPC High Density)
footprint ADI-CP-32-2_M (QFN, 32-Leads, Body 5x5mm, Pitch 0.5mm, Thermal Pad 3.1x3.1mm, IPC Low Density)
pins: 1 VCC (power) "Connect to VCC", 2 VCC (power) "Power for Limiting Amplifier,LOS", 3 VREF (out) "Internal VREF Voltage. Decouple to GND with a 0.1uF capacitor", 4 NIN (in) "Differential Data Input. CML", 5 PIN (in) "Differential Data Input. CML", 6 NC "No Connect", 7 NC "No Connect", 8 VEE (power) "GND for Limiting Amplifier,LOS", 9 NC "No Connect", 10 REF_CLKP (in) "Differential REFCLK Input. 10 MHz to 160 MHz.", 11 REF_CLKN (in) "Differential REFCLK Input. 10 MHz to 160 MHz", 12 VCC (power) "VCO Power", 13 VEE (power) "VCO GND", 14 CF2 "Frequency Loop Capacitor", 15 CF1 "Frequency Loop Capacitor", 16 LOL (out) "Loss-of-Lock Indicator. LVTTL active high", 17 VEE (power) "FLL Detector GND", 18 VCC (power) "FLL Detector Power", 19 SADDR5 (in) "Slave Address Bit 5", 20 SCK (in) "I2C Clock Input", 21 SDA (io) "I2C Data Input", 22 NC "No Connect", 23 VEE (power) "Output Buffer, I2C GND", 24 VCC (power) "Output Buffer, I2C Power", 25 CLKOUTN (out) "Differential Recovered Clock Output. LVDS", 26 CLKOUTP (out) "Differential Recovered Clock Output. LVDS", 27 SQUELCH (in) "Disable Clock and Data Outputs. Active high. LVTTL", 28 DATAOUTN (out) "Differential Recovered Data Output. LVDS", 29 DATAOUTP (out) "Differential Recovered Data Output. LVDS", 30 VEE (power) "Phase Detector, Phase Shifter GND", 31 VCC (power) "Phase Detector, Phase Shifter Power", 32 VCC (power) "Connect to VCC", 33 EP (power) "Connect to GND. Works as a heat sink"

## ADN2805ACPZ-RL7
designator U?
1.25 Gbps Clock and Data Recovery IC, CP-32-2, Pb-Free, 1500 Reel; Voltage Supply (V): 3.3; Data Rate (Gb/s): 1.25; Input Sensitivity (mVp-p): 200; Rate: Single; DatasheetVersion: Rev. A; PackageVersion: Jan-2005; PackageReference: CP-32-2; PackageDescription: 32-Lead Lead Frame Chip Scale Package [LFCSP_VQ]; Code_JEDEC: MO-220-VHHD-2; ComponentLink1Description: Manufacturer URL; ComponentLink1URL: www.analog.com; ComponentLink2Description: Datasheet; ComponentLink2URL: http://www.analog.com/static/imported-files/data_sheets/ADN2805.pdf; ComponentLink3Description: Package Specification; ComponentLink3URL: http://www.analog.com/static/imported-files/packages/414143737956480539664569CP_32_2.pdf
footprint ADI-CP-32-2_N (QFN, 32-Leads, Body 5x5mm, Pitch 0.5mm, Thermal Pad 3.1x3.1mm, IPC Medium Density)
footprint ADI-CP-32-2_L (QFN, 32-Leads, Body 5x5mm, Pitch 0.5mm, Thermal Pad 3.1x3.1mm, IPC High Density)
footprint ADI-CP-32-2_M (QFN, 32-Leads, Body 5x5mm, Pitch 0.5mm, Thermal Pad 3.1x3.1mm, IPC Low Density)
pins: 1 VCC (power) "Connect to VCC", 2 VCC (power) "Power for Limiting Amplifier,LOS", 3 VREF (out) "Internal VREF Voltage. Decouple to GND with a 0.1uF capacitor", 4 NIN (in) "Differential Data Input. CML", 5 PIN (in) "Differential Data Input. CML", 6 NC "No Connect", 7 NC "No Connect", 8 VEE (power) "GND for Limiting Amplifier,LOS", 9 NC "No Connect", 10 REF_CLKP (in) "Differential REFCLK Input. 10 MHz to 160 MHz.", 11 REF_CLKN (in) "Differential REFCLK Input. 10 MHz to 160 MHz", 12 VCC (power) "VCO Power", 13 VEE (power) "VCO GND", 14 CF2 "Frequency Loop Capacitor", 15 CF1 "Frequency Loop Capacitor", 16 LOL (out) "Loss-of-Lock Indicator. LVTTL active high", 17 VEE (power) "FLL Detector GND", 18 VCC (power) "FLL Detector Power", 19 SADDR5 (in) "Slave Address Bit 5", 20 SCK (in) "I2C Clock Input", 21 SDA (io) "I2C Data Input", 22 NC "No Connect", 23 VEE (power) "Output Buffer, I2C GND", 24 VCC (power) "Output Buffer, I2C Power", 25 CLKOUTN (out) "Differential Recovered Clock Output. LVDS", 26 CLKOUTP (out) "Differential Recovered Clock Output. LVDS", 27 SQUELCH (in) "Disable Clock and Data Outputs. Active high. LVTTL", 28 DATAOUTN (out) "Differential Recovered Data Output. LVDS", 29 DATAOUTP (out) "Differential Recovered Data Output. LVDS", 30 VEE (power) "Phase Detector, Phase Shifter GND", 31 VCC (power) "Phase Detector, Phase Shifter Power", 32 VCC (power) "Connect to VCC", 33 EP (power) "Connect to GND. Works as a heat sink"

## ADN2806ACPZ
designator U?
622 Mbps Clock and Data Recovery IC, CP-32-2, Pb-Free, 490 Tray; Voltage Supply (V): 3.3; Data Rate (Gb/s): 0.622; Input Sensitivity (mVp-p): 200; Jitter Tolerance (Ulpp): 1.0 @ 250 kHz; Jitter Transfer: 71 kHz @ OC12; Jitter Gen (mUI rms): 1; Rate: Single; Reference Clk: Optional; DatasheetVersion: Rev. B; PackageVersion: Jan-2005; PackageReference: CP-32-2; PackageDescription: 32-Lead Lead Frame Chip Scale Package [LFCSP_VQ]; Code_JEDEC: MO-220-VHHD-2; ComponentLink1Description: Manufacturer URL; ComponentLink1URL: www.analog.com; ComponentLink2Description: Datasheet; ComponentLink2URL: http://www.analog.com/static/imported-files/data_sheets/ADN2806.pdf; ComponentLink3Description: Package Specification; ComponentLink3URL: http://www.analog.com/static/imported-files/packages/414143737956480539664569CP_32_2.pdf
footprint ADI-CP-32-2_N (QFN, 32-Leads, Body 5x5mm, Pitch 0.5mm, Thermal Pad 3.1x3.1mm, IPC Medium Density)
footprint ADI-CP-32-2_L (QFN, 32-Leads, Body 5x5mm, Pitch 0.5mm, Thermal Pad 3.1x3.1mm, IPC High Density)
footprint ADI-CP-32-2_M (QFN, 32-Leads, Body 5x5mm, Pitch 0.5mm, Thermal Pad 3.1x3.1mm, IPC Low Density)
pins: 1 VCC (power) "Connect to VCC", 2 VCC (power) "Power for Limiting Amplifier, LOS", 3 VREF (out) "Internal VREF Voltage. Decouple to GND with a 0.1 uF capacitor", 4 NIN (in) "Differential Data Input. CML", 5 PIN (in) "Differential Data Input. CML", 6 NC "No Connect", 7 NC "No Connect", 8 VEE (power) "GND for Limiting Amplifier, LOS", 9 NC "No Connect", 10 REF_CLKP (in) "Differential REFCLK Input. 10 MHz to 160 MHz.", 11 REF_CLKN (in) "Differential REFCLK Input. 10 MHz to 160 MHz", 12 VCC (power) "VCO Power", 13 VEE (power) "VCO GND", 14 CF2 "Frequency Loop Capacitor", 15 CF1 "Frequency Loop Capacitor", 16 LOL (out) "Loss-of-Lock Indicator. LVTTL active high", 17 VEE (power) "FLL Detector GND", 18 VCC (power) "FLL Detector Power", 19 SADDR5 (in) "Slave Address Bit 5", 20 SCK (in) "I2C Clock Input", 21 SDA (io) "I2C Data Input", 22 NC "No Connect", 23 VEE (power) "Output Buffer, I2C GND", 24 VCC (power) "Output Buffer, I2C Power", 25 CLKOUTN (out) "Differential Recovered Clock Output. LVDS", 26 CLKOUTP (out) "Differential Recovered Clock Output. LVDS", 27 SQUELCH (in) "Disable Clock and Data Outputs. Active high. LVTTL", 28 DATAOUTN (out) "Differential Recovered Data Output. LVDS", 29 DATAOUTP (out) "Differential Recovered Data Output. LVDS", 30 VEE (power) "Phase Detector, Phase Shifter GND", 31 VCC (power) "Phase Detector, Phase Shifter Power", 32 VCC (power) "Connect to VCC", 33 EP (power) "Connect to GND. Works as a heat sink"

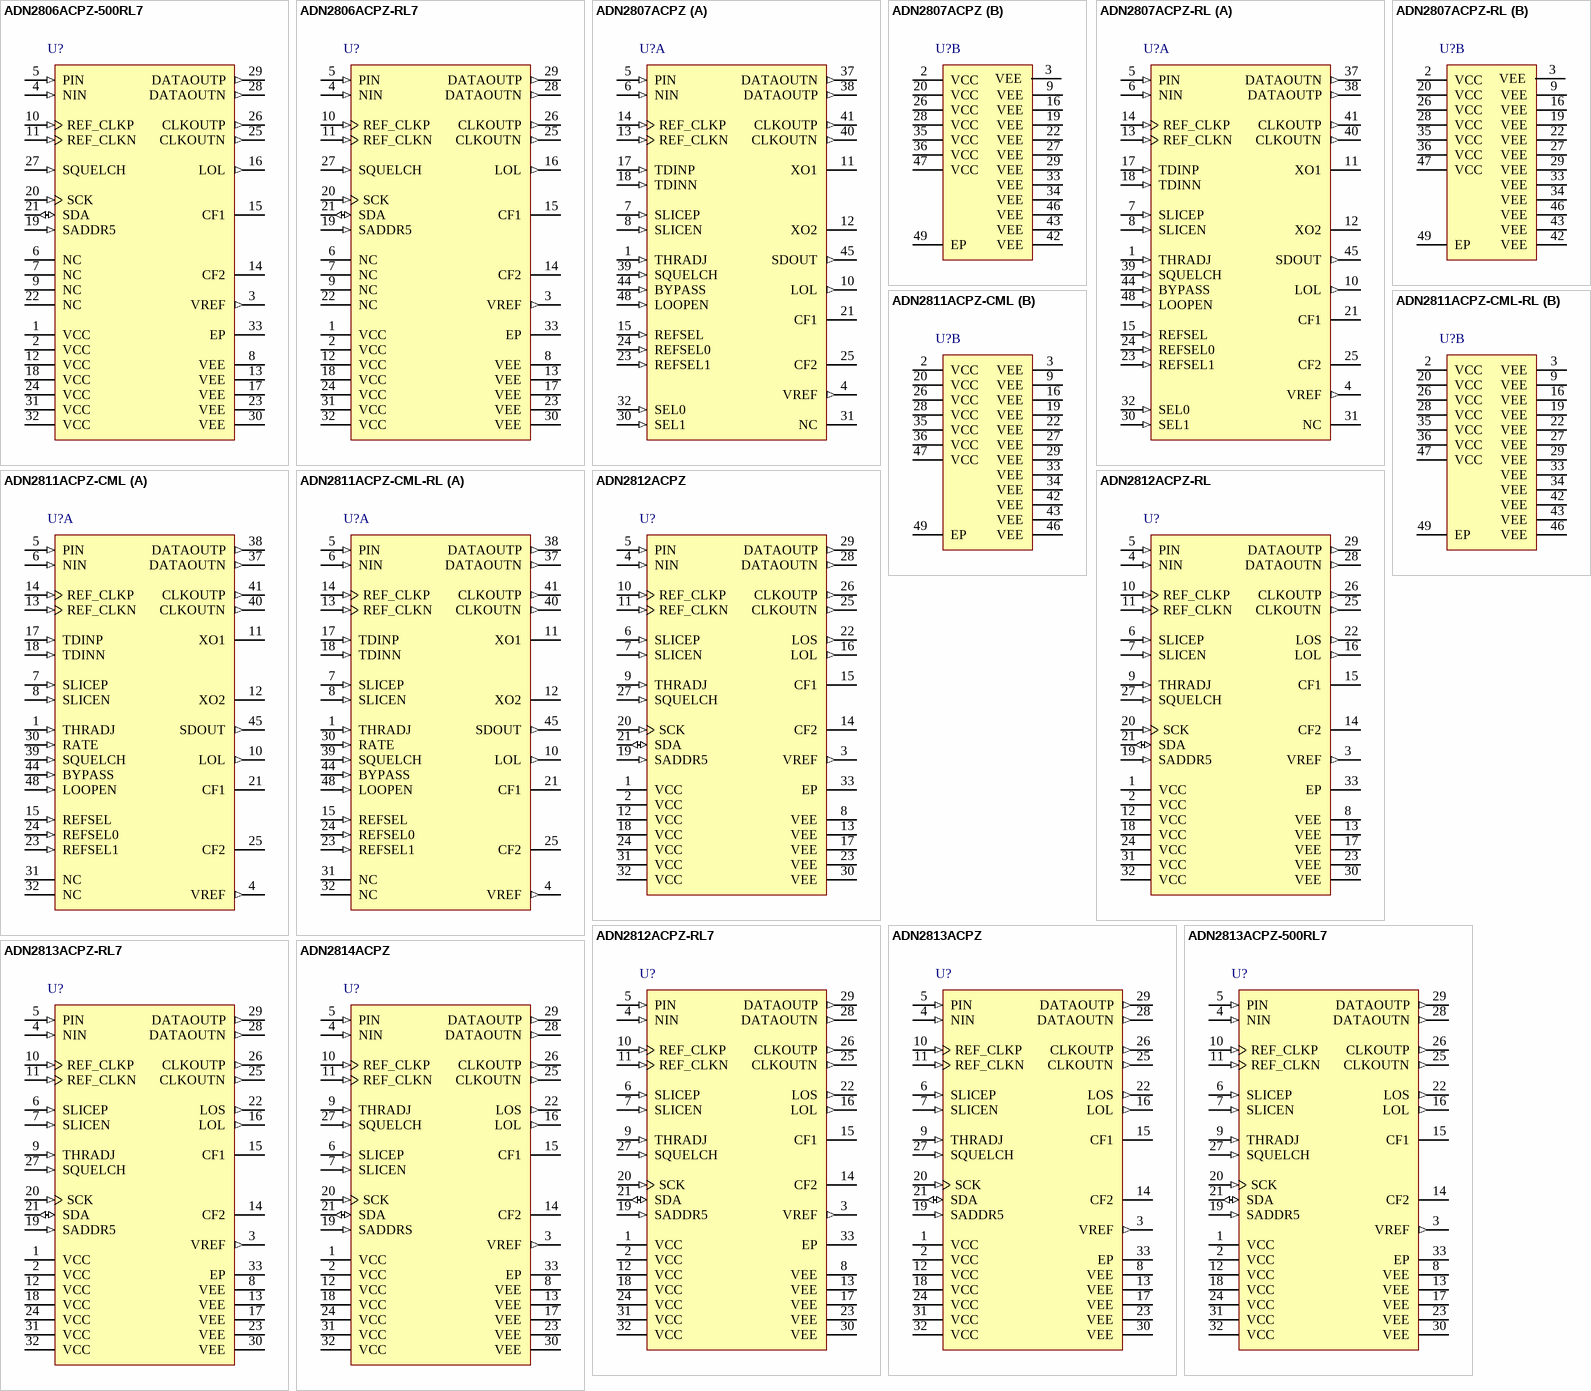
[diagram p13: symbols ADN2806ACPZ-500RL7 to ADN2814ACPZ]

## ADN2806ACPZ-500RL7
designator U?
622 Mbps Clock and Data Recovery IC, CP-32-2, Pb-Free, 500 Reel; Voltage Supply (V): 3.3; Data Rate (Gb/s): 0.622; Input Sensitivity (mVp-p): 200; Jitter Tolerance (Ulpp): 1.0 @ 250 kHz; Jitter Transfer: 71 kHz @ OC12; Jitter Gen (mUI rms): 1; Rate: Single; Reference Clk: Optional; DatasheetVersion: Rev. B; PackageVersion: Jan-2005; PackageReference: CP-32-2; PackageDescription: 32-Lead Lead Frame Chip Scale Package [LFCSP_VQ]; Code_JEDEC: MO-220-VHHD-2; ComponentLink1Description: Manufacturer URL; ComponentLink1URL: www.analog.com; ComponentLink2Description: Datasheet; ComponentLink2URL: http://www.analog.com/static/imported-files/data_sheets/ADN2806.pdf; ComponentLink3Description: Package Specification; ComponentLink3URL: http://www.analog.com/static/imported-files/packages/414143737956480539664569CP_32_2.pdf
footprint ADI-CP-32-2_N (QFN, 32-Leads, Body 5x5mm, Pitch 0.5mm, Thermal Pad 3.1x3.1mm, IPC Medium Density)
footprint ADI-CP-32-2_L (QFN, 32-Leads, Body 5x5mm, Pitch 0.5mm, Thermal Pad 3.1x3.1mm, IPC High Density)
footprint ADI-CP-32-2_M (QFN, 32-Leads, Body 5x5mm, Pitch 0.5mm, Thermal Pad 3.1x3.1mm, IPC Low Density)
pins: 1 VCC (power) "Connect to VCC", 2 VCC (power) "Power for Limiting Amplifier, LOS", 3 VREF (out) "Internal VREF Voltage. Decouple to GND with a 0.1 uF capacitor", 4 NIN (in) "Differential Data Input. CML", 5 PIN (in) "Differential Data Input. CML", 6 NC "No Connect", 7 NC "No Connect", 8 VEE (power) "GND for Limiting Amplifier, LOS", 9 NC "No Connect", 10 REF_CLKP (in) "Differential REFCLK Input. 10 MHz to 160 MHz.", 11 REF_CLKN (in) "Differential REFCLK Input. 10 MHz to 160 MHz", 12 VCC (power) "VCO Power", 13 VEE (power) "VCO GND", 14 CF2 "Frequency Loop Capacitor", 15 CF1 "Frequency Loop Capacitor", 16 LOL (out) "Loss-of-Lock Indicator. LVTTL active high", 17 VEE (power) "FLL Detector GND", 18 VCC (power) "FLL Detector Power", 19 SADDR5 (in) "Slave Address Bit 5", 20 SCK (in) "I2C Clock Input", 21 SDA (io) "I2C Data Input", 22 NC "No Connect", 23 VEE (power) "Output Buffer, I2C GND", 24 VCC (power) "Output Buffer, I2C Power", 25 CLKOUTN (out) "Differential Recovered Clock Output. LVDS", 26 CLKOUTP (out) "Differential Recovered Clock Output. LVDS", 27 SQUELCH (in) "Disable Clock and Data Outputs. Active high. LVTTL", 28 DATAOUTN (out) "Differential Recovered Data Output. LVDS", 29 DATAOUTP (out) "Differential Recovered Data Output. LVDS", 30 VEE (power) "Phase Detector, Phase Shifter GND", 31 VCC (power) "Phase Detector, Phase Shifter Power", 32 VCC (power) "Connect to VCC", 33 EP (power) "Connect to GND. Works as a heat sink"

## ADN2806ACPZ-RL7
designator U?
622 Mbps Clock and Data Recovery IC, CP-32-2, Pb-Free, 1500 Reel; Voltage Supply (V): 3.3; Data Rate (Gb/s): 0.622; Input Sensitivity (mVp-p): 200; Jitter Tolerance (Ulpp): 1.0 @ 250 kHz; Jitter Transfer: 71 kHz @ OC12; Jitter Gen (mUI rms): 1; Rate: Single; Reference Clk: Optional; DatasheetVersion: Rev. B; PackageVersion: Jan-2005; PackageReference: CP-32-2; PackageDescription: 32-Lead Lead Frame Chip Scale Package [LFCSP_VQ]; Code_JEDEC: MO-220-VHHD-2; ComponentLink1Description: Manufacturer URL; ComponentLink1URL: www.analog.com; ComponentLink2Description: Datasheet; ComponentLink2URL: http://www.analog.com/static/imported-files/data_sheets/ADN2806.pdf; ComponentLink3Description: Package Specification; ComponentLink3URL: http://www.analog.com/static/imported-files/packages/414143737956480539664569CP_32_2.pdf
footprint ADI-CP-32-2_N (QFN, 32-Leads, Body 5x5mm, Pitch 0.5mm, Thermal Pad 3.1x3.1mm, IPC Medium Density)
footprint ADI-CP-32-2_L (QFN, 32-Leads, Body 5x5mm, Pitch 0.5mm, Thermal Pad 3.1x3.1mm, IPC High Density)
footprint ADI-CP-32-2_M (QFN, 32-Leads, Body 5x5mm, Pitch 0.5mm, Thermal Pad 3.1x3.1mm, IPC Low Density)
pins: 1 VCC (power) "Connect to VCC", 2 VCC (power) "Power for Limiting Amplifier, LOS", 3 VREF (out) "Internal VREF Voltage. Decouple to GND with a 0.1 uF capacitor", 4 NIN (in) "Differential Data Input. CML", 5 PIN (in) "Differential Data Input. CML", 6 NC "No Connect", 7 NC "No Connect", 8 VEE (power) "GND for Limiting Amplifier, LOS", 9 NC "No Connect", 10 REF_CLKP (in) "Differential REFCLK Input. 10 MHz to 160 MHz.", 11 REF_CLKN (in) "Differential REFCLK Input. 10 MHz to 160 MHz", 12 VCC (power) "VCO Power", 13 VEE (power) "VCO GND", 14 CF2 "Frequency Loop Capacitor", 15 CF1 "Frequency Loop Capacitor", 16 LOL (out) "Loss-of-Lock Indicator. LVTTL active high", 17 VEE (power) "FLL Detector GND", 18 VCC (power) "FLL Detector Power", 19 SADDR5 (in) "Slave Address Bit 5", 20 SCK (in) "I2C Clock Input", 21 SDA (io) "I2C Data Input", 22 NC "No Connect", 23 VEE (power) "Output Buffer, I2C GND", 24 VCC (power) "Output Buffer, I2C Power", 25 CLKOUTN (out) "Differential Recovered Clock Output. LVDS", 26 CLKOUTP (out) "Differential Recovered Clock Output. LVDS", 27 SQUELCH (in) "Disable Clock and Data Outputs. Active high. LVTTL", 28 DATAOUTN (out) "Differential Recovered Data Output. LVDS", 29 DATAOUTP (out) "Differential Recovered Data Output. LVDS", 30 VEE (power) "Phase Detector, Phase Shifter GND", 31 VCC (power) "Phase Detector, Phase Shifter Power", 32 VCC (power) "Connect to VCC", 33 EP (power) "Connect to GND. Works as a heat sink"

## ADN2807ACPZ
designator U?
155/622 Mb/s Clock and Data Recovery IC with Integrated Limiting Amp, CP-48-1, Pb-Free, 260 Tray; Voltage Supply (V): 3.3; Data Rate (Gb/s): 0.622; Input Sensitivity (mVp-p): 4; Jitter Tolerance (Ulpp): 1.0 @ 250 kHz; Jitter Transfer: 140 kHz @ OC12; Jitter Gen (mUI rms): 1; Rate: Multi; Reference Clk: X; DatasheetVersion: Rev. A; PackageVersion: Jan-2005; PackageReference: CP-48-1; PackageDescription: 48-Lead Lead Frame Chip Scale Package [LFCSP_VQ]; Code_JEDEC: MO-220-VKKD-2; ComponentLink1Description: Manufacturer URL; ComponentLink1URL: www.analog.com; ComponentLink2Description: Datasheet; ComponentLink2URL: http://www.analog.com/static/imported-files/data_sheets/ADN2807.pdf; ComponentLink3Description: Package Specification; ComponentLink3URL: http://www.analog.com/static/imported-files/packages/PKG_PDF/LFCSP(CP)/CP-48/CP_48_1.pdf
footprint ADI-CP-48-1_N (QFN, 48-Leads, Body 7x7mm, Pitch 0.5mm, Thermal Pad 5.1x5.1mm, IPC Medium Density)
footprint ADI-CP-48-1_L (QFN, 48-Leads, Body 7x7mm, Pitch 0.5mm, Thermal Pad 5.1x5.1mm, IPC High Density)
footprint ADI-CP-48-1_M (QFN, 48-Leads, Body 7x7mm, Pitch 0.5mm, Thermal Pad 5.1x5.1mm, IPC Low Density)
part A pins: 1 THRADJ (in) "LOS Threshold Setting Resistor.", 4 VREF (out) "Internal VREF Voltage. Decouple to GND with a 0.1 uF capacitor.", 5 PIN (in) "Differential Data Input.", 6 NIN (in) "Differential Data Input.", 7 SLICEP (in) "Differential Slice Level Adjust Input.", 8 SLICEN (in) "Differential Slice Level Adjust Input.", 10 LOL (out) "Loss-of-Lock Indicator. LVTTL active high.", 11 XO1 "Crystal Oscillator.", 12 XO2 "Crystal Oscillator.", 13 REF_CLKN (in) "Differential REFCLK Input. LVTTL,LVCMOS,LVPECL,LVDS (LVPECL,LVDS only at 155.52 MHz).", 14 REF_CLKP (in) "Differential REFCLK Input. LVTTL,LVCMOS,LVPECL,LVDS (LVPECL,LVDS only at 155.52 MHz).", 15 REFSEL (in) "Reference Source Select. 0=on-chip oscillator with external crystal. 1=external clock source, LVTTL.", 17 TDINP (in) "Differential Test Data Input. CML.", 18 TDINN (in) "Differential Test Data Input. CML.", 21 CF1 "Frequency Loop Capacitor.", 23 REFSEL1 (in) "Reference Frequency Select (See Table 6) LVTTL.", 24 REFSEL0 (in) "Reference Frequency Select (See Table 6) LVTTL.", 25 CF2 "Frequency Loop Capacitor.", 30 SEL1 (in) "Data Rate Select (See Table 5) LVTTL.", 31 NC "No Connect.", 32 SEL0 (in) "Data Rate Select (See Table 5) LVTTL.", 37 DATAOUTN (out) "Differential Retimed Data Output. CML.", 38 DATAOUTP (out) "Differential Retimed Data Output. CML.", 39 SQUELCH (in) "Disable Clock and Data Outputs. Active high. LVTTL.", 40 CLKOUTN (out) "Differential Recovered Clock Output. CML.", 41 CLKOUTP (out) "Differential Recovered Clock Output. CML.", 44 BYPASS (in) "Bypass CDR Mode. Active high. LVTTL.", 45 SDOUT (out) "Loss-of-Signal Detect Output. Active high. LVTTL.", 48 LOOPEN (in) "Enable Test Data Inputs. Active high. LVTTL."
part B pins: 2 VCC (power) "Analog Supply.", 3 VEE (power) "Ground.", 9 VEE (power) "Ground.", 16 VEE (power) "Ground.", 19 VEE (power) "Ground.", 20 VCC (power) "Digital Supply.", 22 VEE (power) "Ground.", 26 VCC (power) "Analog Supply.", 27 VEE (power) "Ground.", 28 VCC (power) "Analog Supply.", 29 VEE (power) "Ground.", 33 VEE (power) "Ground.", 34 VEE (power) "Ground.", 35 VCC (power) "Output Driver Supply.", 36 VCC (power) "Output Driver Supply.", 42 VEE (power) "Ground.", 43 VEE (power) "Ground.", 46 VEE (power) "Ground.", 47 VCC (power) "Digital Supply.", 49 EP (power) "Exposed Pad"

## ADN2807ACPZ-RL
designator U?
155/622 Mb/s Clock and Data Recovery IC with Integrated Limiting Amp, CP-48-1, Pb-Free, 2500 Reel; Voltage Supply (V): 3.3; Data Rate (Gb/s): 0.622; Input Sensitivity (mVp-p): 4; Jitter Tolerance (Ulpp): 1.0 @ 250 kHz; Jitter Transfer: 140 kHz @ OC12; Jitter Gen (mUI rms): 1; Rate: Multi; Reference Clk: X; DatasheetVersion: Rev. A; PackageVersion: Jan-2005; PackageReference: CP-48-1; PackageDescription: 48-Lead Lead Frame Chip Scale Package [LFCSP_VQ]; Code_JEDEC: MO-220-VKKD-2; ComponentLink1Description: Manufacturer URL; ComponentLink1URL: www.analog.com; ComponentLink2Description: Datasheet; ComponentLink2URL: http://www.analog.com/static/imported-files/data_sheets/ADN2807.pdf; ComponentLink3Description: Package Specification; ComponentLink3URL: http://www.analog.com/static/imported-files/packages/PKG_PDF/LFCSP(CP)/CP-48/CP_48_1.pdf
footprint ADI-CP-48-1_N (QFN, 48-Leads, Body 7x7mm, Pitch 0.5mm, Thermal Pad 5.1x5.1mm, IPC Medium Density)
footprint ADI-CP-48-1_L (QFN, 48-Leads, Body 7x7mm, Pitch 0.5mm, Thermal Pad 5.1x5.1mm, IPC High Density)
footprint ADI-CP-48-1_M (QFN, 48-Leads, Body 7x7mm, Pitch 0.5mm, Thermal Pad 5.1x5.1mm, IPC Low Density)
part A pins: 1 THRADJ (in) "LOS Threshold Setting Resistor.", 4 VREF (out) "Internal VREF Voltage. Decouple to GND with a 0.1 uF capacitor.", 5 PIN (in) "Differential Data Input.", 6 NIN (in) "Differential Data Input.", 7 SLICEP (in) "Differential Slice Level Adjust Input.", 8 SLICEN (in) "Differential Slice Level Adjust Input.", 10 LOL (out) "Loss-of-Lock Indicator. LVTTL active high.", 11 XO1 "Crystal Oscillator.", 12 XO2 "Crystal Oscillator.", 13 REF_CLKN (in) "Differential REFCLK Input. LVTTL,LVCMOS,LVPECL,LVDS (LVPECL,LVDS only at 155.52 MHz).", 14 REF_CLKP (in) "Differential REFCLK Input. LVTTL,LVCMOS,LVPECL,LVDS (LVPECL,LVDS only at 155.52 MHz).", 15 REFSEL (in) "Reference Source Select. 0=on-chip oscillator with external crystal. 1=external clock source, LVTTL.", 17 TDINP (in) "Differential Test Data Input. CML.", 18 TDINN (in) "Differential Test Data Input. CML.", 21 CF1 "Frequency Loop Capacitor.", 23 REFSEL1 (in) "Reference Frequency Select (See Table 6) LVTTL.", 24 REFSEL0 (in) "Reference Frequency Select (See Table 6) LVTTL.", 25 CF2 "Frequency Loop Capacitor.", 30 SEL1 (in) "Data Rate Select (See Table 5) LVTTL.", 31 NC "No Connect.", 32 SEL0 (in) "Data Rate Select (See Table 5) LVTTL.", 37 DATAOUTN (out) "Differential Retimed Data Output. CML.", 38 DATAOUTP (out) "Differential Retimed Data Output. CML.", 39 SQUELCH (in) "Disable Clock and Data Outputs. Active high. LVTTL.", 40 CLKOUTN (out) "Differential Recovered Clock Output. CML.", 41 CLKOUTP (out) "Differential Recovered Clock Output. CML.", 44 BYPASS (in) "Bypass CDR Mode. Active high. LVTTL.", 45 SDOUT (out) "Loss-of-Signal Detect Output. Active high. LVTTL.", 48 LOOPEN (in) "Enable Test Data Inputs. Active high. LVTTL."
part B pins: 2 VCC (power) "Analog Supply.", 3 VEE (power) "Ground.", 9 VEE (power) "Ground.", 16 VEE (power) "Ground.", 19 VEE (power) "Ground.", 20 VCC (power) "Digital Supply.", 22 VEE (power) "Ground.", 26 VCC (power) "Analog Supply.", 27 VEE (power) "Ground.", 28 VCC (power) "Analog Supply.", 29 VEE (power) "Ground.", 33 VEE (power) "Ground.", 34 VEE (power) "Ground.", 35 VCC (power) "Output Driver Supply.", 36 VCC (power) "Output Driver Supply.", 42 VEE (power) "Ground.", 43 VEE (power) "Ground.", 46 VEE (power) "Ground.", 47 VCC (power) "Digital Supply.", 49 EP (power) "Exposed Pad"